# Altium footprint library Devices_Matiushok.PcbLib: 6 footprints
Each footprint in its own frame and in the unit in brackets; x right, y up, seen from the top. Pads: shape width x height; smd on the part's side, far side on the other; paste and mask are expansions set on the pad; w line width, h text height; cw(c..) or ccw(c..) is an arc to the next point about the centre after c.
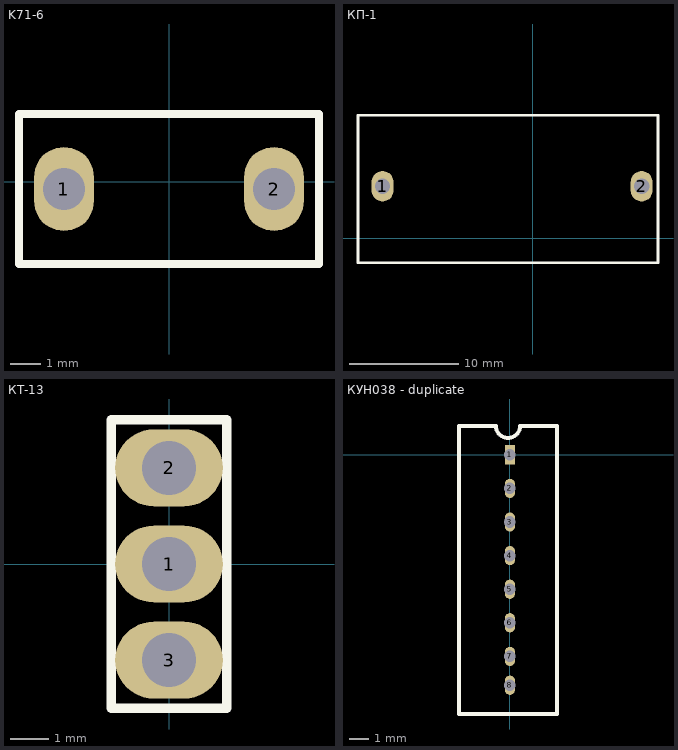
[diagram p0: the footprints below, top view; thin cyan lines are the x and y axes]

## K71-6 [mm]
pads (2):
  oval 2x2.8 hole 1.4: 1(-3.5,-0.25) 2(3.5,-0.25)
Top Overlay:
  lines w0.254: -5,-2.75 -5,2.25 5,2.25 5,-2.75 -5,-2.75

## PCBComponent_1 [mm]

## КП-1 [mm]
pads (2):
  oval 2x2.8 hole 1.4: 1(-13.75,4.75) 2(10,4.75)
Top Overlay:
  lines w0.254: -16,-2.25 -16,11.25 11.5,11.25 11.5,-2.25 -16,-2.25

## КТ-13 [mm]
height 5
pads (3):
  oval 2.8x2 hole 1.4: 1(0,0) 2(0,2.5) 3(0,-2.5)
Top Overlay:
  lines w0.254: -1.5,3.75 -0.5,3.75 -1.5,3.75 ; -1.5,3.75 1.5,3.75 1.5,-3.75 -1.5,-3.75 -1.5,3.75

## КУН038 [mm]

## КУН038 - duplicate [mm]
pads (8):
  rect 0.53x1 / inner rect 0.53x1.2 / far side rect 0.53x1 hole 0.6: 1(0,0)
  oval 0.53x1 / inner oval 0.53x1.2 / far side oval 0.53x1 hole 0.6: 2(0,-1.75) 3(0,-3.5) 4(0,-5.25) 5(0,-7) 6(0,-8.75) 7(0,-10.5) 8(0,-12)
Top Overlay:
  lines w0.2: -2.65,-13.5 2.45,-13.5 2.45,1.5 0.525,1.5 cw(c-0.1,1.5) -0.725,1.5 -2.65,1.5 -2.65,-13.5